# EAGLE library part LM2672M-5.0 (library brewbox-components)
Power converter
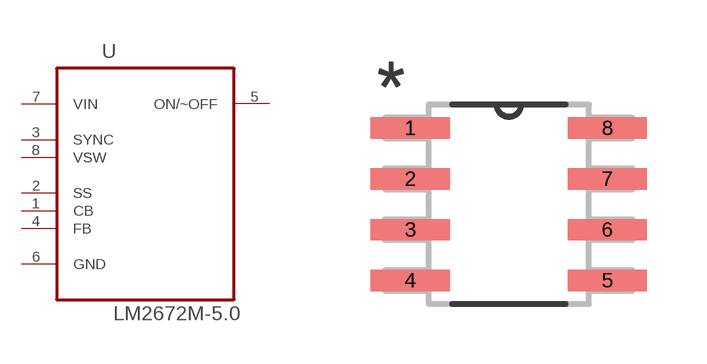
[diagram p14: symbol with the pads of SOIC127P600X175-8N; footprint SOIC127P600X175-8N]

Designator prefix U

## LM2672M-5.0 (MPN: LM2672M-5.0; OC_FARNELL: 9489797; OC_NEWARK: 41K4081; PACKAGE: 8-SOIC; SUPPLIER: NationalSemiconductor)  [SOIC127P600X175-8N]
1  CB  pas
2  SS  pas
3  SYNC  pas
4  FB  in
5  ON/~OFF  pas
6  GND  pas
7  VIN  pwr
8  VSW  pas

## Footprint SOIC127P600X175-8N (pad centres in mm)
smd 1.981 x 0.533: 1 -2.464,1.905; 2 -2.464,0.635; 3 -2.464,-0.635; 4 -2.464,-1.905; 5 2.464,-1.905; 6 2.464,-0.635; 7 2.464,0.635; 8 2.464,1.905